# EAGLE library part CC2511 (library chipcon-ti)
True System-on-Chip with Low Power RF Transceiver and 8051 MCU 2.4 GHz ISM/SRD band systems Full-Speed USB Controller
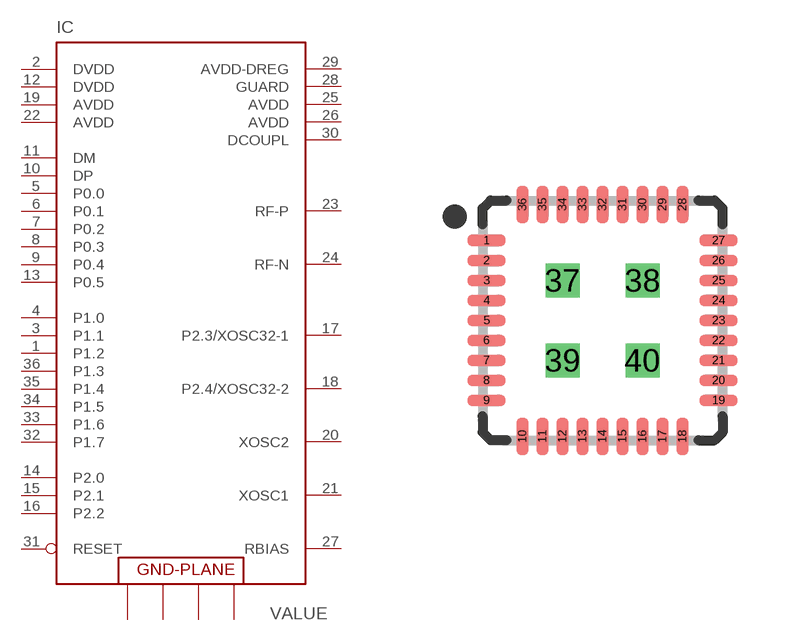
[diagram p9: symbol with the pads of QLP-36; footprint QLP-36]

Designator prefix IC

## CC2511  [QLP-36]
1  P1.2
2  DVDD  pwr
3  P1.1
4  P1.0
5  P0.0
6  P0.1
7  P0.2
8  P0.3
9  P0.4
10  DP
11  DM
12  DVDD  pwr
13  P0.5
14  P2.0
15  P2.1
16  P2.2
17  P2.3/XOSC32-1
18  P2.4/XOSC32-2
19  AVDD  pwr
20  XOSC2
21  XOSC1
22  AVDD  pwr
23  RF-P
24  RF-N
25  AVDD  pwr
26  AVDD  pwr
27  RBIAS
28  GUARD  pwr
29  AVDD-DREG  pwr
30  DCOUPL
31  RESET  in
32  P1.7
33  P1.6
34  P1.5
35  P1.4
36  P1.3
37  GND  pwr
38  GND  pwr
39  GND  pwr
40  GND  pwr

## Footprint QLP-36 (pad centres in mm)
QFN50P600X600X90-37N
smd 0.95 x 0.3: 1 -2.9,2; 2 -2.9,1.5; 3 -2.9,1; 4 -2.9,0.5; 5 -2.9,0; 6 -2.9,-0.5; 7 -2.9,-1; 8 -2.9,-1.5; 9 -2.9,-2; 19 2.9,-2; 20 2.9,-1.5; 21 2.9,-1; 22 2.9,-0.5; 23 2.9,0; 24 2.9,0.5; 25 2.9,1; 26 2.9,1.5; 27 2.9,2
smd 0.3 x 0.95: 10 -2,-2.9; 11 -1.5,-2.9; 12 -1,-2.9; 13 -0.5,-2.9; 14 0,-2.9; 15 0.5,-2.9; 16 1,-2.9; 17 1.5,-2.9; 18 2,-2.9; 28 2,2.9; 29 1.5,2.9; 30 1,2.9; 31 0.5,2.9; 32 0,2.9; 33 -0.5,2.9; 34 -1,2.9; 35 -1.5,2.9; 36 -2,2.9
drill 0.25 pad 0.85 square: 37 -1,1; 38 1,1; 39 -1,-1; 40 1,-1